# EAGLE library part USD-SOCKET (library SparkFunEagle-6-6-07)
microSD Socket Push-push type uSD socket. Schematic element and footprint production proven. Spark Fun Electronics SKU : PRT-00127. tDoc lines correctly indicate media card edge positions when inserting (unlocked, locked, depressed).
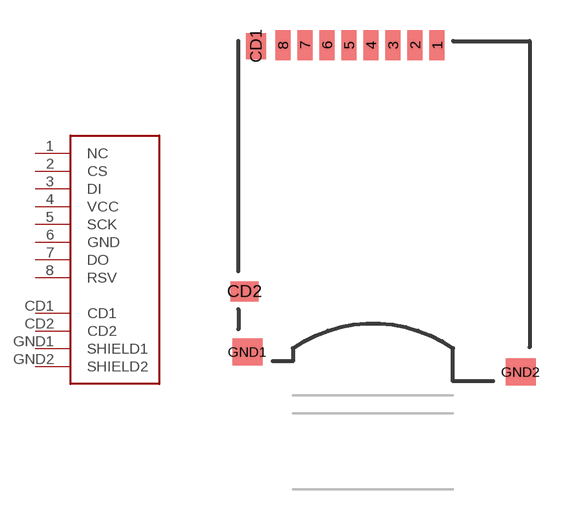
[diagram p56: symbol with the pads of USD-SOCKET-PP; footprint USD-SOCKET-PP]

Designator prefix -

## USD-SOCKETUSD  [USD-SOCKET-PP]
1  NC
2  CS
3  DI
4  VCC
5  SCK
6  GND
7  DO
8  RSV
CD1  CD1
CD2  CD2
GND1  SHIELD1
GND2  SHIELD2

## Footprint USD-SOCKET-PP (pad centres in mm)
smd 0.75 x 1.5: 1 3.2,16.8; 2 2.1,16.8; 3 1,16.8; 4 -0.1,16.8; 5 -1.2,16.8; 6 -2.3,16.8; 7 -3.4,16.8; 8 -4.5,16.8
smd 1 x 1.3: CD1 -5.85,16.75
smd 1.4 x 1: CD2 -6.425,4.5
smd 1.5 x 1.35: GND1 -6.275,1.475; GND2 7.375,0.475